# EAGLE library part RJ45_TM21R (library Traficon)
CT: Connector from RS-online. Remark the special pin layout in the package!
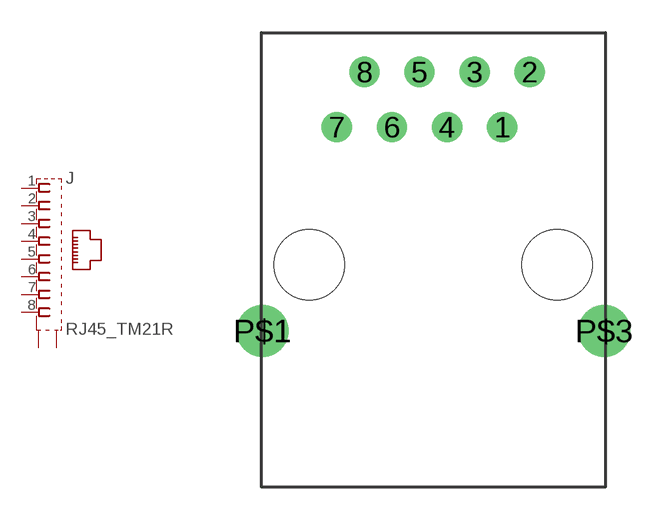
[diagram p256: symbol with the pads of RJ45_TMR21R-5C-88; footprint RJ45_TMR21R-5C-88]

Designator prefix J

## RJ45_TM21R  [RJ45_TMR21R-5C-88]
1  1  pas
2  2  pas
3  3  pas
4  4  pas
5  5  pas
6  6  pas
7  7  pas
8  8  pas
P$1  S1  pas
P$3  S2  pas

## Footprint RJ45_TMR21R-5C-88 (pad centres in mm)
CT: 21/07/10: Added tRestrict layer, because on Dtron-PCB's the EMI-fingers (signal PE) make short circuit with the GND-plane underneath.
drill 0.889 round: 1 3.175,6.35; 2 4.445,8.89; 3 1.905,8.89; 4 0.635,6.35; 5 -0.635,8.89; 6 -1.905,6.35; 7 -4.445,6.35; 8 -3.175,8.89
drill 1.6 round: P$1 -7.88,-3.05; P$3 7.88,-3.05
hole 3.251 at -5.715,0
hole 3.251 at 5.715,0